# EAGLE library part RPI2 (library C3-Modules)
Device for Raspberry Pi GPIO Header
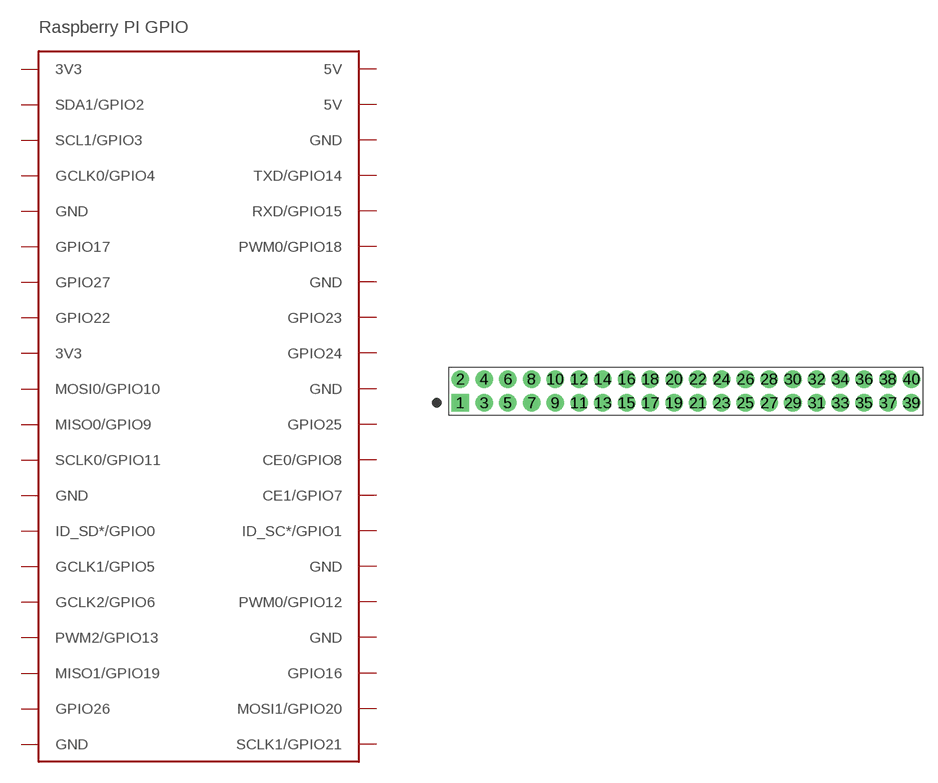
[diagram p9: symbol with the pads of 100-2X20-TH-040; footprint 100-2X20-TH-040]

Designator prefix PI

## RPI2  [100-2X20-TH-040]
1  3V3  pas
2  5V  pwr
3  SDA1/GPIO2
4  5V  pwr
5  SCL1/GPIO3
6  GND  pwr
7  GCLK0/GPIO4
8  TXD/GPIO14
9  GND  pwr
10  RXD/GPIO15
11  GPIO17
12  PWM0/GPIO18
13  GPIO27
14  GND  pwr
15  GPIO22
16  GPIO23
17  3V3  pas
18  GPIO24
19  MOSI0/GPIO10
20  GND  pwr
21  MISO0/GPIO9
22  GPIO25
23  SCLK0/GPIO11
24  CE0/GPIO8
25  GND  pwr
26  CE1/GPIO7
27  ID_SD*/GPIO0
28  ID_SC*/GPIO1
29  GCLK1/GPIO5
30  GND  pwr
31  GCLK2/GPIO6
32  PWM0/GPIO12
33  PWM2/GPIO13
34  GND  pwr
35  MISO1/GPIO19
36  GPIO16
37  GPIO26
38  MOSI1/GPIO20
39  GND  pwr
40  SCLK1/GPIO21

## Footprint 100-2X20-TH-040 (pad centres in mm)
0.100" Pitch, Through-Hole Header, 0.040" Drill Dia.- 2x20
drill 1.016 pad 1.88 square: 1 0,0
drill 1.016 pad 1.88: 2 0,2.54; 3 2.54,0; 4 2.54,2.54; 5 5.08,0; 6 5.08,2.54; 7 7.62,0; 8 7.62,2.54; 9 10.16,0; 10 10.16,2.54; 11 12.7,0; 12 12.7,2.54; 13 15.24,0; 14 15.24,2.54; 15 17.78,0; 16 17.78,2.54; 17 20.32,0; 18 20.32,2.54; 19 22.86,0; 20 22.86,2.54; 21 25.4,0; 22 25.4,2.54; 23 27.94,0; 24 27.94,2.54; 25 30.48,0; 26 30.48,2.54; 27 33.02,0; 28 33.02,2.54; 29 35.56,0; 30 35.56,2.54; 31 38.1,0; 32 38.1,2.54; 33 40.64,0; 34 40.64,2.54; 35 43.18,0; 36 43.18,2.54; 37 45.72,0; 38 45.72,2.54; 39 48.26,0; 40 48.26,2.54